# EAGLE library part IS62WV51216 (library Misaka-IC)
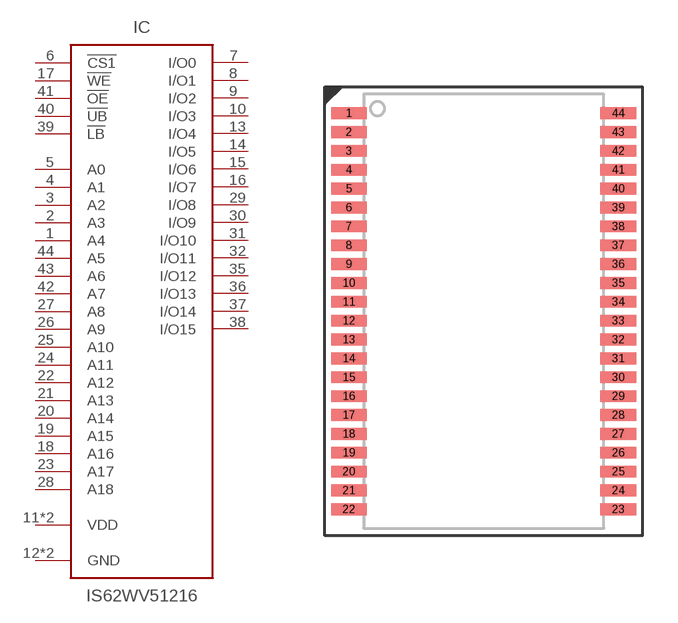
[diagram p14: symbol with the pads of TSOP-44(II); footprint TSOP-44(II)]

Designator prefix IC

## IS62WV51216BLL  [TSOP-44(II)]
1  A4  in
2  A3  in
3  A2
4  A1  in
5  A0  in
6  !CS1  in
7  I/O0
8  I/O1
9  I/O2
10  I/O3
11  VDD  pwr
12  GND  pwr
13  I/O4
14  I/O5
15  I/O6
16  I/O7
17  !WE  in
18  A16  in
19  A15  in
20  A14  in
21  A13  in
22  A12  in
23  A17  in
24  A11  in
25  A10  in
26  A9  in
27  A8  in
28  A18  in
29  I/O8
30  I/O9
31  I/O10
32  I/O11
33  VDD  pwr
34  GND  pwr
35  I/O12
36  I/O13
37  I/O14
38  I/O15
39  !LB  in
40  !UB  in
41  !OE  in
42  A7  in
43  A6  in
44  A5  in

## Footprint TSOP-44(II) (pad centres in mm)
smd 1.52 x 0.5: 1 -5.71,8.4; 2 -5.71,7.6; 3 -5.71,6.8; 4 -5.71,6; 5 -5.71,5.2; 6 -5.71,4.4; 7 -5.71,3.6; 8 -5.71,2.8; 9 -5.71,2; 10 -5.71,1.2; 11 -5.71,0.4; 12 -5.71,-0.4; 13 -5.71,-1.2; 14 -5.71,-2; 15 -5.71,-2.8; 16 -5.71,-3.6; 17 -5.71,-4.4; 18 -5.71,-5.2; 19 -5.71,-6; 20 -5.71,-6.8; 21 -5.71,-7.6; 22 -5.71,-8.4; 23 5.71,-8.4; 24 5.71,-7.6; 25 5.71,-6.8; 26 5.71,-6; 27 5.71,-5.2; 28 5.71,-4.4; 29 5.71,-3.6; 30 5.71,-2.8; 31 5.71,-2; 32 5.71,-1.2; 33 5.71,-0.4; 34 5.71,0.4; 35 5.71,1.2; 36 5.71,2; 37 5.71,2.8; 38 5.71,3.6; 39 5.71,4.4; 40 5.71,5.2; 41 5.71,6; 42 5.71,6.8; 43 5.71,7.6; 44 5.71,8.4